# EAGLE library part IL300 (library opto)
IL300: Linear optocoupler (Infineon) 0.01% servo nonlinearity, 200kHz BW, 5300V Uiso
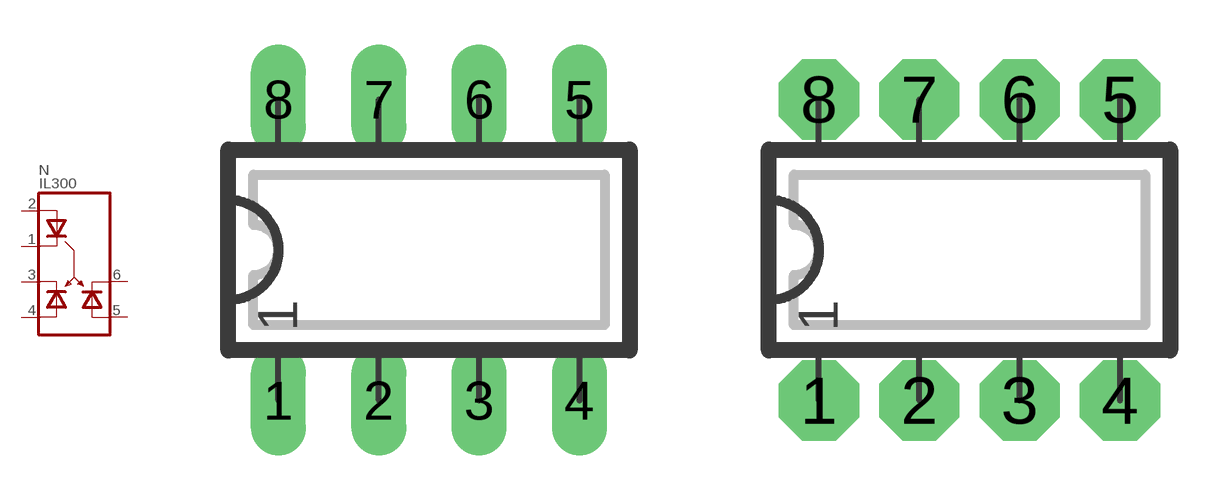
[diagram p12: symbol with the pads of DIP08L; footprints DIP08L, DIP08N]

Designator prefix N

## IL300  [DIP08L]
1  INC  in
2  INA  in
3  O1C
4  O1A
5  O2A
6  O2C

## IL300L  [DIP08L]
Pads as for DIP08L

## IL300N  [DIP08N]
Pads as for DIP08L

## IL300R  [DIP08R]
Pads as for DIP08L

## Footprint DIP08L (pad centres in mm)
DIP-8, long pads Standard IC package, 8 pins
drill 0.813 pad 1.397 long: 1 0,0; 2 2.54,0; 3 5.08,0; 4 7.62,0; 5 7.62,7.62; 6 5.08,7.62; 7 2.54,7.62; 8 0,7.62

## Footprint DIP08N (pad centres in mm)
DIP-8 Standard IC package, 8 pins
drill 0.813 pad 2.032 octagon: 1 0,0; 2 2.54,0; 3 5.08,0; 4 7.62,0; 5 7.62,7.62; 6 5.08,7.62; 7 2.54,7.62; 8 0,7.62

## Footprint DIP08R (pad centres in mm)
DIP-8, reduced pads Standard IC package, 8 pins
drill 0.813 pad 1.397 square: 1 0,0; 2 2.54,0; 3 5.08,0; 4 7.62,0; 5 7.62,7.62; 6 5.08,7.62; 7 2.54,7.62; 8 0,7.62